# Altium schematic symbol library TPD12S521DBTR.SchLib: 1 symbol
Pins are listed as number, name and electrical type; pins without a type are passive.

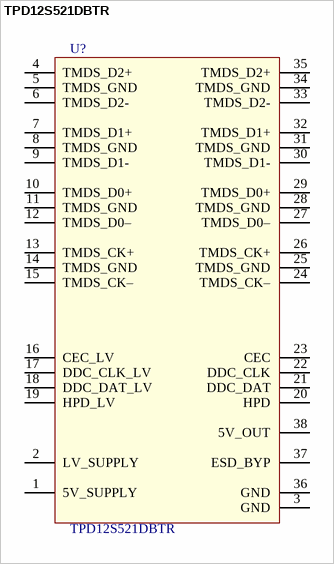
[diagram p0: symbol TPD12S521DBTR]

## TPD12S521DBTR
designator U?
Single-Chip HDMI Transmitter Port Protection and Interface Device; value: TPD12S521DBTR
pins: 1 5V_SUPPLY (power), 2 LV_SUPPLY (power), 3 GND (power), 4 TMDS_D2+, 5 TMDS_GND, 6 TMDS_D2-, 7 TMDS_D1+, 8 TMDS_GND, 9 TMDS_D1-, 10 TMDS_D0+, 11 TMDS_GND, 12 TMDS_D0–, 13 TMDS_CK+, 14 TMDS_GND, 15 TMDS_CK–, 16 CEC_LV, 17 DDC_CLK_LV, 18 DDC_DAT_LV, 19 HPD_LV, 20 HPD, 21 DDC_DAT, 22 DDC_CLK, 23 CEC, 24 TMDS_CK–, 25 TMDS_GND, 26 TMDS_CK+, 27 TMDS_D0–, 28 TMDS_GND, 29 TMDS_D0+, 30 TMDS_D1-, 31 TMDS_GND, 32 TMDS_D1+, 33 TMDS_D2-, 34 TMDS_GND, 35 TMDS_D2+, 36 GND, 37 ESD_BYP, 38 5V_OUT (power)